# Altium footprint library ASM2464PD.PcbLib: 48 footprints (part 1 of 3)
Each footprint in its own frame and in the unit in brackets; x right, y up, seen from the top. Pads: shape width x height; smd on the part's side, far side on the other; paste and mask are expansions set on the pad; w line width, h text height; cw(c..) or ccw(c..) is an arc to the next point about the centre after c.
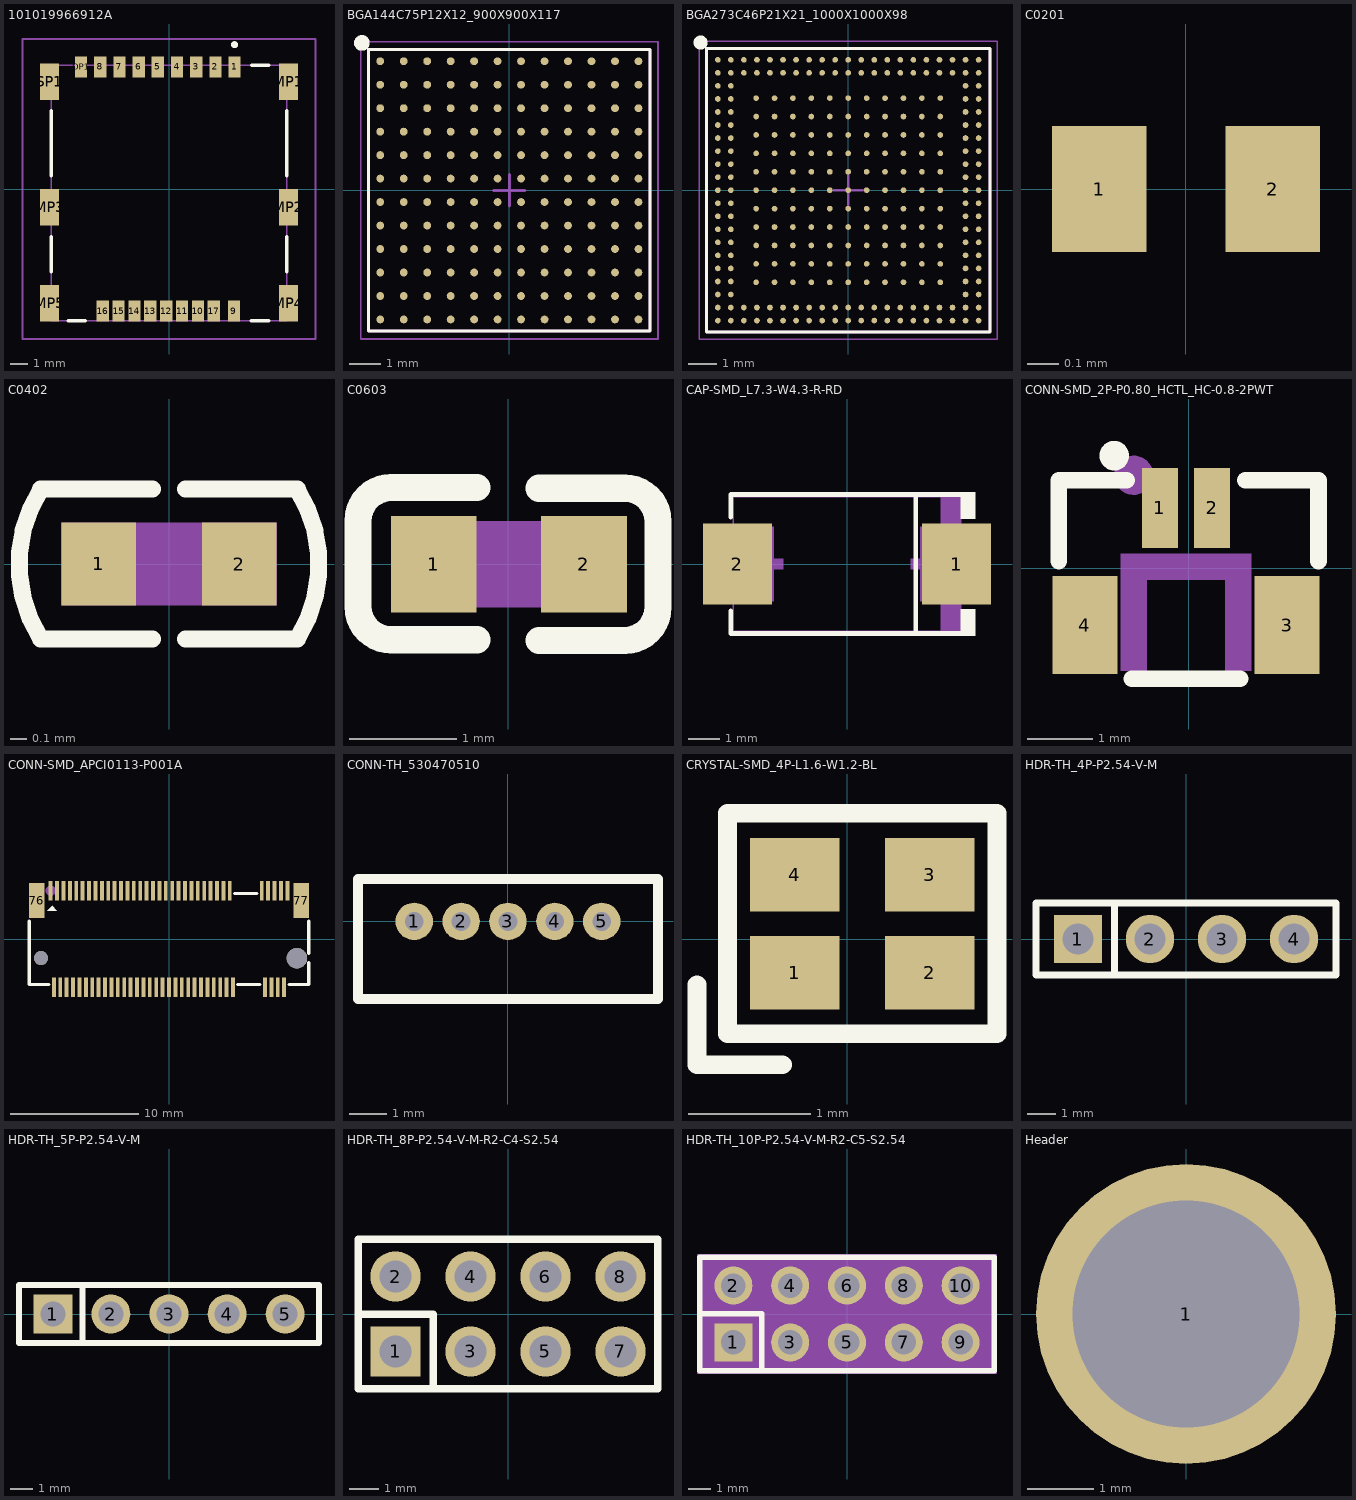
[diagram p0: the footprints below, top view; thin cyan lines are the x and y axes]

## 101019966912A [mm]
pads (24):
  rect 0.7x1.2 smd: 1(3.76,7) 2(2.66,7) 3(1.56,7) 4(0.46,7) 5(-0.64,7) 6(-1.74,7) 7(-2.84,7) 8(-3.94,7) 9(3.72,-7) 10(1.66,-7) 11(0.75,-7) 12(-0.16,-7) 13(-1.07,-7) 14(-1.98,-7) 15(-2.89,-7) 16(-3.8,-7) 17(2.57,-7) DP1(-5.04,7)
  rect 1.1x2.1 smd: MP1(6.85,6.15) MP2(6.85,-1.05) MP3(-6.85,-1.05) MP4(6.85,-6.55) MP5(-6.85,-6.55) SP1(-6.85,6.15)
Top Overlay:
  lines w0.2: 3.76,8.175 ccw(c3.76,8.275) 3.76,8.375 ; 3.76,8.175 cw(c3.76,8.275) 3.76,8.375 ; 3.76,8.175 ccw(c3.76,8.275) 3.76,8.375 ; -6.75,-4.75 -6.75,-2.75 -6.75,-4.75 ; -6.75,0.75 -6.75,4.5 -6.75,0.75 ; -5.79,-7.55 -4.79,-7.55 -5.79,-7.55 ; 4.71,-7.55 5.71,-7.55 4.71,-7.55 ; 4.75,7.1 5.71,7.1 4.75,7.1 ; 6.75,-4.75 6.75,-2.75 6.75,-4.75 ; 6.75,0.75 6.75,4.5 6.75,0.75
Mechanical 13:
  lines w0.1: -6.75,-7.55 6.75,-7.55 6.75,7.1 -6.75,7.1 -6.75,-7.55
Mechanical 15:
  lines w0.1: -8.4,-8.6 8.4,-8.6 8.4,8.6 -8.4,8.6 -8.4,-8.6
3D body "c10101996.stp": height 1.5, standoff -0.05, extent -7.239,-7.552 7.261,7.298

## BGA144C75P12X12_900X900X117 [mm] "BGA, 144-Leads, Body 9.00x9.00mmx1.17mm, Pitch 0.75mm"
height 1.17
pads (144):
  round 0.25 smd: A1(-4.125,4.125) A2(-3.375,4.125) A3(-2.625,4.125) A4(-1.875,4.125) A5(-1.125,4.125) A6(-0.375,4.125) A7(0.375,4.125) A8(1.125,4.125) A9(1.875,4.125) A10(2.625,4.125) A11(3.375,4.125) A12(4.125,4.125) B1(-4.125,3.375) B2(-3.375,3.375) B3(-2.625,3.375) B4(-1.875,3.375) B5(-1.125,3.375) B6(-0.375,3.375) B7(0.375,3.375) B8(1.125,3.375) B9(1.875,3.375) B10(2.625,3.375) B11(3.375,3.375) B12(4.125,3.375) C1(-4.125,2.625) C2(-3.375,2.625) C3(-2.625,2.625) C4(-1.875,2.625) C5(-1.125,2.625) C6(-0.375,2.625) C7(0.375,2.625) C8(1.125,2.625) C9(1.875,2.625) C10(2.625,2.625) C11(3.375,2.625) C12(4.125,2.625) D1(-4.125,1.875) D2(-3.375,1.875) D3(-2.625,1.875) D4(-1.875,1.875) D5(-1.125,1.875) D6(-0.375,1.875) D7(0.375,1.875) D8(1.125,1.875) D9(1.875,1.875) D10(2.625,1.875) D11(3.375,1.875) D12(4.125,1.875) E1(-4.125,1.125) E2(-3.375,1.125) E3(-2.625,1.125) E4(-1.875,1.125) E5(-1.125,1.125) E6(-0.375,1.125) E7(0.375,1.125) E8(1.125,1.125) E9(1.875,1.125) E10(2.625,1.125) E11(3.375,1.125) E12(4.125,1.125) F1(-4.125,0.375) F2(-3.375,0.375) F3(-2.625,0.375) F4(-1.875,0.375) F5(-1.125,0.375) F6(-0.375,0.375) F7(0.375,0.375) F8(1.125,0.375) F9(1.875,0.375) F10(2.625,0.375) F11(3.375,0.375) F12(4.125,0.375) G1(-4.125,-0.375) G2(-3.375,-0.375) G3(-2.625,-0.375) G4(-1.875,-0.375) G5(-1.125,-0.375) G6(-0.375,-0.375) G7(0.375,-0.375) G8(1.125,-0.375) G9(1.875,-0.375) G10(2.625,-0.375) G11(3.375,-0.375) G12(4.125,-0.375) H1(-4.125,-1.125) H2(-3.375,-1.125) H3(-2.625,-1.125) H4(-1.875,-1.125) H5(-1.125,-1.125) H6(-0.375,-1.125) H7(0.375,-1.125) H8(1.125,-1.125) H9(1.875,-1.125) H10(2.625,-1.125) H11(3.375,-1.125) H12(4.125,-1.125) J1(-4.125,-1.875) J2(-3.375,-1.875) J3(-2.625,-1.875) J4(-1.875,-1.875) J5(-1.125,-1.875) J6(-0.375,-1.875) J7(0.375,-1.875) J8(1.125,-1.875) J9(1.875,-1.875) J10(2.625,-1.875) J11(3.375,-1.875) J12(4.125,-1.875) K1(-4.125,-2.625) K2(-3.375,-2.625) K3(-2.625,-2.625) K4(-1.875,-2.625) K5(-1.125,-2.625) K6(-0.375,-2.625) K7(0.375,-2.625) K8(1.125,-2.625) K9(1.875,-2.625) K10(2.625,-2.625) K11(3.375,-2.625) K12(4.125,-2.625) L1(-4.125,-3.375) L2(-3.375,-3.375) L3(-2.625,-3.375) L4(-1.875,-3.375) L5(-1.125,-3.375) L6(-0.375,-3.375) L7(0.375,-3.375) L8(1.125,-3.375) L9(1.875,-3.375) L10(2.625,-3.375) L11(3.375,-3.375) L12(4.125,-3.375) M1(-4.125,-4.125) M2(-3.375,-4.125) M3(-2.625,-4.125) M4(-1.875,-4.125) M5(-1.125,-4.125) M6(-0.375,-4.125) M7(0.375,-4.125) M8(1.125,-4.125) M9(1.875,-4.125) M10(2.625,-4.125) M11(3.375,-4.125) M12(4.125,-4.125)
Top Overlay:
  circle w0.25: c-4.71,4.71 r0.125
  lines w0.1: -4.5,-4.5 4.5,-4.5 4.5,4.5 -4.5,4.5 -4.5,-4.5
Mechanical 13:
  lines w0.1: -4.5,-4.5 -4.5,4.5 4.5,4.5 4.5,-4.5 -4.5,-4.5
Mechanical 15:
  lines w0.05: -4.75,-4.75 -4.75,4.75 4.75,4.75 4.75,-4.75 -4.75,-4.75
  lines w0.1: -0.5,0 0.5,0 ; 0,-0.5 0,0.5
3D body "BGA144C75P12X12_900X900X117.step": height 1.17, standoff 0, extent -4.5,-4.5 4.5,4.5

## BGA273C46P21X21_1000X1000X98 [mm] "BGA, 273-Leads, Body 10.00x10.00mmx0.98mm, Pitch 0.46mm"
height 0.99
pads (273):
  round 0.2 smd: A1(-4.6,4.6) A2(-4.14,4.6) A3(-3.68,4.6) A4(-3.22,4.6) A5(-2.76,4.6) A6(-2.3,4.6) A7(-1.84,4.6) A8(-1.38,4.6) A9(-0.92,4.6) A10(-0.46,4.6) A11(0,4.6) A12(0.46,4.6) A13(0.92,4.6) A14(1.38,4.6) A15(1.84,4.6) A16(2.3,4.6) A17(2.76,4.6) A18(3.22,4.6) A19(3.68,4.6) A20(4.14,4.6) A21(4.6,4.6) AA1(-4.6,-4.6) AA2(-4.14,-4.6) AA3(-3.68,-4.6) AA4(-3.22,-4.6) AA5(-2.76,-4.6) AA6(-2.3,-4.6) AA7(-1.84,-4.6) AA8(-1.38,-4.6) AA9(-0.92,-4.6) AA10(-0.46,-4.6) AA11(0,-4.6) AA12(0.46,-4.6) AA13(0.92,-4.6) AA14(1.38,-4.6) AA15(1.84,-4.6) AA16(2.3,-4.6) AA17(2.76,-4.6) AA18(3.22,-4.6) AA19(3.68,-4.6) AA20(4.14,-4.6) AA21(4.6,-4.6) B1(-4.6,4.14) B2(-4.14,4.14) B3(-3.68,4.14) B4(-3.22,4.14) B5(-2.76,4.14) B6(-2.3,4.14) B7(-1.84,4.14) B8(-1.38,4.14) B9(-0.92,4.14) B10(-0.46,4.14) B11(0,4.14) B12(0.46,4.14) B13(0.92,4.14) B14(1.38,4.14) B15(1.84,4.14) B16(2.3,4.14) B17(2.76,4.14) B18(3.22,4.14) B19(3.68,4.14) B20(4.14,4.14) B21(4.6,4.14) C1(-4.6,3.68) C2(-4.14,3.68) C20(4.14,3.68) C21(4.6,3.68) D1(-4.6,3.22) D2(-4.14,3.22) D4(-3.25,3.25) D5(-2.6,3.25) D6(-1.95,3.25) D8(-1.3,3.25) D9(-0.65,3.25) D11(0,3.25) D13(0.65,3.25) D14(1.3,3.25) D16(1.95,3.25) D17(2.6,3.25) D18(3.25,3.25) D20(4.14,3.22) D21(4.6,3.22) E1(-4.6,2.76) E2(-4.14,2.76) E4(-3.25,2.6) E5(-2.6,2.6) E6(-1.95,2.6) E8(-1.3,2.6) E9(-0.65,2.6) E11(0,2.6) E13(0.65,2.6) E14(1.3,2.6) E16(1.95,2.6) E17(2.6,2.6) E18(3.25,2.6) E20(4.14,2.76) E21(4.6,2.76) F1(-4.6,2.3) F2(-4.14,2.3) F4(-3.25,1.95) F5(-2.6,1.95) F6(-1.95,1.95) F8(-1.3,1.95) F9(-0.65,1.95) F11(0,1.95) F13(0.65,1.95) F14(1.3,1.95) F16(1.95,1.95) F17(2.6,1.95) F18(3.25,1.95) F20(4.14,2.3) F21(4.6,2.3) G1(-4.6,1.84) G2(-4.14,1.84) G20(4.14,1.84) G21(4.6,1.84) H1(-4.6,1.38) H2(-4.14,1.38) H4(-3.25,1.3) H5(-2.6,1.3) H6(-1.95,1.3) H8(-1.3,1.3) H9(-0.65,1.3) H11(0,1.3) H13(0.65,1.3) H14(1.3,1.3) H16(1.95,1.3) H17(2.6,1.3) H18(3.25,1.3) H20(4.14,1.38) H21(4.6,1.38) J1(-4.6,0.92) J2(-4.14,0.92) J4(-3.25,0.65) J5(-2.6,0.65) J6(-1.95,0.65) J8(-1.3,0.65) J9(-0.65,0.65) J11(0,0.65) J13(0.65,0.65) J14(1.3,0.65) J16(1.95,0.65) J17(2.6,0.65) J18(3.25,0.65) J20(4.14,0.92) J21(4.6,0.92) K1(-4.6,0.46) K2(-4.14,0.46) K20(4.14,0.46) K21(4.6,0.46) L1(-4.6,0) L2(-4.14,0) L4(-3.25,0) L5(-2.6,0) L6(-1.95,0) L8(-1.3,0) L9(-0.65,0) L11(0,0) L13(0.65,0) L14(1.3,0) L16(1.95,0) L17(2.6,0) L18(3.25,0) L20(4.14,0) L21(4.6,0) M1(-4.6,-0.46) M2(-4.14,-0.46) M20(4.14,-0.46) M21(4.6,-0.46) N1(-4.6,-0.92) N2(-4.14,-0.92) N4(-3.25,-0.65) N5(-2.6,-0.65) N6(-1.95,-0.65) N8(-1.3,-0.65) N9(-0.65,-0.65) N11(0,-0.65) N13(0.65,-0.65) N14(1.3,-0.65) N16(1.95,-0.65) N17(2.6,-0.65) N18(3.25,-0.65) N20(4.14,-0.92) N21(4.6,-0.92) P1(-4.6,-1.38) P2(-4.14,-1.38) P4(-3.25,-1.3) P5(-2.6,-1.3) P6(-1.95,-1.3) P8(-1.3,-1.3) P9(-0.65,-1.3) P11(0,-1.3) P13(0.65,-1.3) P14(1.3,-1.3) P16(1.95,-1.3) P17(2.6,-1.3) P18(3.25,-1.3) P20(4.14,-1.38) P21(4.6,-1.38) R1(-4.6,-1.84) R2(-4.14,-1.84) R20(4.14,-1.84) R21(4.6,-1.84) T1(-4.6,-2.3) T2(-4.14,-2.3) T4(-3.25,-1.95) T5(-2.6,-1.95) T6(-1.95,-1.95) T8(-1.3,-1.95) T9(-0.65,-1.95) T11(0,-1.95) T13(0.65,-1.95) T14(1.3,-1.95) T16(1.95,-1.95) T17(2.6,-1.95) T18(3.25,-1.95) T20(4.14,-2.3) T21(4.6,-2.3) U1(-4.6,-2.76) U2(-4.14,-2.76) U4(-3.25,-2.6) U5(-2.6,-2.6) U6(-1.95,-2.6) U8(-1.3,-2.6) U9(-0.65,-2.6) U11(0,-2.6) U13(0.65,-2.6) U14(1.3,-2.6) U16(1.95,-2.6) U17(2.6,-2.6) U18(3.25,-2.6) U20(4.14,-2.76) U21(4.6,-2.76) V1(-4.6,-3.22) V2(-4.14,-3.22) V4(-3.25,-3.25) V5(-2.6,-3.25) V6(-1.95,-3.25) V8(-1.3,-3.25) V9(-0.65,-3.25) V11(0,-3.25) V13(0.65,-3.25) V14(1.3,-3.25) V16(1.95,-3.25) V17(2.6,-3.25) V18(3.25,-3.25) V20(4.14,-3.22) V21(4.6,-3.22) W1(-4.6,-3.68) W2(-4.14,-3.68) W20(4.14,-3.68) W21(4.6,-3.68) Y1(-4.6,-4.14) Y2(-4.14,-4.14) Y3(-3.68,-4.14) Y4(-3.22,-4.14) Y5(-2.76,-4.14) Y6(-2.3,-4.14) Y7(-1.84,-4.14) Y8(-1.38,-4.14) Y9(-0.92,-4.14) Y10(-0.46,-4.14) Y11(0,-4.14) Y12(0.46,-4.14) Y13(0.92,-4.14) Y14(1.38,-4.14) Y15(1.84,-4.14) Y16(2.3,-4.14) Y17(2.76,-4.14) Y18(3.22,-4.14) Y19(3.68,-4.14) Y20(4.14,-4.14) Y21(4.6,-4.14)
Top Overlay:
  circle w0.25: c-5.21,5.21 r0.125
  lines w0.1: -5,-5 5,-5 5,5 -5,5 -5,-5
Mechanical 13:
  lines w0.1: -5,-5 5,-5 5,5 -5,5 -5,-5
Mechanical 15:
  lines w0.05: -5.25,-5.25 5.25,-5.25 5.25,5.25 -5.25,5.25 -5.25,-5.25
  lines w0.1: -0.5,0 0.5,0 ; 0,-0.5 0,0.5
3D body "BGA273C46P21X21_1000X1000X98.step": height 0.98, standoff 0, extent -5,-5 5,5

## C0201 [mm]
pads (2):
  rect 0.3x0.4 smd: 1(-0.275,0) 2(0.275,0)
3D body "CAPC0603X03N.step": height 0.3, standoff 0, extent -0.3,-0.15 0.3,0.15

## C0402 [mm]
pads (2):
  rect 0.45x0.5 smd mask+0.076: 1(-0.425,0) 2(0.425,0)
Top Overlay:
  lines w0.102: -0.777,-0.453 -0.1,-0.453 ; -0.777,0.453 -0.1,0.453 ; -0.776,-0.45 cw(c-0.064,0) -0.775,0.452 ; 0.1,-0.453 0.777,-0.453 ; 0.1,0.453 0.777,0.453 ; 0.775,0.452 cw(c0.064,0) 0.776,-0.45
Mechanical 7:
  pour cut-out: -0.65,0.25 0.65,0.25 0.65,-0.25 -0.65,-0.25
3D body: height 0.5, standoff 0, extent -0.5,-0.25 -0.3,0.25
3D body: height 0.5, standoff 0, extent -0.3,-0.25 0.3,0.25
3D body: height 0.5, standoff 0, extent 0.3,-0.25 0.5,0.25

## C0603 [mm]
pads (2):
  rect 0.8x0.9 smd: 1(-0.692,-0.003) 2(0.708,-0.003)
Top Overlay:
  lines w0.254: -0.288,-0.707 -1.088,-0.707 cw(c-1.088,-0.397) -1.398,-0.397 -1.398,0.403 cw(c-1.088,0.403) -1.088,0.713 -0.288,0.713 ; 0.288,-0.713 1.088,-0.713 ccw(c1.088,-0.403) 1.398,-0.403 1.398,0.397 ccw(c1.088,0.397) 1.088,0.707 0.288,0.707
Mechanical 4:
  region: -0.792,-0.403 -0.792,0.397 0.808,0.397 0.808,-0.403
Mechanical 5:
  region: 0.808,-0.403 0.808,0.397 0.508,0.397 0.508,-0.403
  region: -0.792,-0.403 -0.792,0.397 -0.492,0.397 -0.492,-0.403

## CAP-SMD_L7.3-W4.3-R-RD [mm]
pads (2):
  rect 2.207x2.592 smd: 1(3.511,0) 2(-3.511,0)
Top Overlay:
  region: 3.65,-2.302 3.65,-1.448 4.107,-1.448 4.107,-2.302
  region: 3.65,2.302 3.65,1.448 4.107,1.448 4.107,2.302
  lines w0.152: -3.726,-1.499 -3.726,-2.226 3.726,-2.226 ; -3.726,1.499 -3.726,2.226 3.726,2.226 ; 2.204,-2.226 2.204,2.226
Mechanical 6:
  region: 3.65,2.15 3.65,1.075 3.005,1.075 3.005,2.15
  region: 3.65,-2.15 3.65,-1.075 3.005,-1.075 3.005,-2.15
  region: 2.844,-1.075 2.844,1.075 2.521,1.075 2.521,-1.075
  region: 3.328,-0.161 3.328,0.161 2.038,0.161 2.038,-0.161
  region: -3.328,-0.161 -3.328,0.161 -2.038,0.161 -2.038,-0.161
Mechanical 15:
  region: 3.65,-1.2 3.65,1.2 2.35,1.2 2.35,-1.2
  region: -3.65,-1.2 -3.65,1.2 -2.35,1.2 -2.35,-1.2
  region: 3.71,-2.12 3.71,-2.095 3.675,-2.06 3.625,-2.06 3.59,-2.095 3.59,-2.12 3.59,-2.145 3.625,-2.18 3.675,-2.18 3.71,-2.145 3.71,-2.12
  lines w0.051: -3.65,-2.15 3.65,-2.15 3.65,2.15 -3.65,2.15 -3.65,-2.15

## CONN-SMD_2P-P0.80_HCTL_HC-0.8-2PWT [mm]
pads (4):
  rect 0.55x1.23 smd: 1(-0.441,0.922) 2(0.359,0.922)
  rect 1x1.5 smd: 3(1.509,-0.874) 4(-1.591,-0.874)
Top Overlay:
  circle w0.254: c-1.141,1.724 r0.1
  lines w0.254: -1.991,0.108 -1.991,1.351 -0.947,1.351 ; -0.872,-1.697 0.79,-1.697 ; 0.865,1.351 1.991,1.351 1.991,0.108
Mechanical 15:
  circle w0.3: c-0.841,1.424 r0.15
  region: -1.041,-1.576 -1.041,0.224 -0.641,0.224 -0.641,-1.576
  region: 0.959,-1.576 0.959,0.224 0.559,0.224 0.559,-1.576
  region: -0.641,0.224 0.559,0.224 0.559,-0.176 -0.641,-0.176

## CONN-SMD_APCI0113-P001A [mm]
pads (71):
  rect 0.3x1.55 smd: 1(-9.25,3.775) 2(-9,-3.775) 3(-8.75,3.775) 4(-8.5,-3.775) 5(-8.25,3.775) 6(-8,-3.775) 7(-7.75,3.775) 8(-7.5,-3.775) 9(-7.25,3.775) 10(-7,-3.775) 11(-6.75,3.775) 12(-6.5,-3.775) 13(-6.25,3.775) 14(-6,-3.775) 15(-5.75,3.775) 16(-5.5,-3.775) 17(-5.25,3.775) 18(-5,-3.775) 19(-4.75,3.775) 20(-4.5,-3.775) 21(-4.25,3.775) 22(-4,-3.775) 23(-3.75,3.775) 24(-3.5,-3.775) 25(-3.25,3.775) 26(-3,-3.775) 27(-2.75,3.775) 28(-2.5,-3.775) 29(-2.25,3.775) 30(-2,-3.775) 31(-1.75,3.775) 32(-1.5,-3.775) 33(-1.25,3.775) 34(-1,-3.775) 35(-0.75,3.775) 36(-0.5,-3.775) 37(-0.25,3.775) 38(0,-3.775) 39(0.25,3.775) 40(0.5,-3.775) 41(0.75,3.775) 42(1,-3.775) 43(1.25,3.775) 44(1.5,-3.775) 45(1.75,3.775) 46(2,-3.775) 47(2.25,3.775) 48(2.5,-3.775) 49(2.75,3.775) 50(3,-3.775) 51(3.25,3.775) 52(3.5,-3.775) 53(3.75,3.775) 54(4,-3.775) 55(4.25,3.775) 56(4.5,-3.775) 57(4.75,3.775) 58(5,-3.775) 67(7.25,3.775) 68(7.5,-3.775) 69(7.75,3.775) 70(8,-3.775) 71(8.25,3.775) 72(8.5,-3.775) 73(8.75,3.775) 74(9,-3.775) 75(9.25,3.775)
  rect 1.2x2.75 smd: 76(-10.35,3) 77(10.35,3)
  round 1.1 hole 1.1 unplated: ""(-10,-1.5)
  round 1.6 hole 1.6 unplated: ""(10,-1.5)
Top Overlay:
  region: -9.144,2.603 -9.525,2.222 -8.763,2.222
  lines w0.254: -10.922,1.394 -10.922,-3.556 -9.381,-3.556 ; 5.131,3.556 6.869,3.556 ; 5.381,-3.556 7.119,-3.556 ; 9.381,-3.556 10.922,-3.556 10.922,-1.864 ; 10.922,-1.136 10.922,1.394
Mechanical 15:
  circle w0.4: c-9.25,3.775 r0.2
3D body "MDT320M0X001_c3d.stp": height 3.2, standoff -0.6, extent -11,-4.346 11,4.204

## CONN-TH_530470510 [mm]
pads (5):
  round 1 hole 0.5: 1(-2.5,0) 2(-1.25,0) 3(0,0) 4(1.25,0) 5(2.5,0)
Top Overlay:
  lines w0.254: -4,-2.07 -4,1.13 4,1.13 4,-2.07 -4,-2.07
3D body "530470510.stp": height 3.97, standoff -2.53, extent -4,-2.07 4,1.13

## CRYSTAL-SMD_4P-L1.6-W1.2-BL [mm]
pads (4):
  rect 0.73x0.6 smd: 1(-0.425,-0.275) 2(0.675,-0.275) 3(0.675,0.525) 4(-0.425,0.525)
Top Overlay:
  lines w0.152: -1.225,-0.375 -1.225,-1.025 -0.526,-1.025 ; -0.975,-0.775 1.225,-0.775 1.225,1.025 -0.975,1.025 -0.975,-0.725 -0.975,-0.775
Mechanical 15:
  circle w0.2: c-0.475,-0.325 r0.1
3D body "ABM12W-25.0000MHZ-8-D1X-T3--3DModel-STEP-400430.STEP": height 0.4, standoff 0, extent -0.675,-0.475 0.925,0.725

## HDR-TH_4P-P2.54-V-M [mm]
pads (4):
  rect 1.7x1.7 hole 1.1: 1(-3.81,0)
  round 1.7 hole 1.1: 2(-1.27,0) 3(1.27,0) 4(3.81,0)
Top Overlay:
  lines w0.254: -2.516,-1.27 -2.516,1.27 ; -5.29,-1.27 -5.29,1.27 5.29,1.27 5.29,-1.27 -5.29,-1.27

## HDR-TH_5P-P2.54-V-M [mm]
pads (5):
  rect 1.7x1.7 hole 1.1: 1(-5.08,0)
  round 1.7 hole 1.1: 2(-2.54,0) 3(0,0) 4(2.54,0) 5(5.08,0)
Top Overlay:
  lines w0.254: -3.786,-1.27 -3.786,1.27 ; -6.56,-1.27 6.56,-1.27 6.56,1.27 -6.56,1.27 -6.56,-1.27

## HDR-TH_8P-P2.54-V-M-R2-C4-S2.54 [mm]
pads (8):
  rect 1.7x1.7 hole 1.1: 1(-3.81,-1.27)
  round 1.7 hole 1.1: 2(-3.81,1.27) 3(-1.27,-1.27) 4(-1.27,1.27) 5(1.27,-1.27) 6(1.27,1.27) 7(3.81,-1.27) 8(3.81,1.27)
Top Overlay:
  lines w0.254: -5.08,0 -2.54,0 -2.54,-2.54 ; 5.07,2.54 -5.08,2.54 -5.08,-2.54 5.08,-2.54 5.08,2.54

## HDR-TH_10P-P2.54-V-M-R2-C5-S2.54 [mm]
pads (10):
  rect 1.7x1.7 hole 1.1: 1(-5.08,-1.27)
  round 1.7 hole 1.1: 2(-5.08,1.27) 3(-2.54,-1.27) 4(-2.54,1.27) 5(0,-1.27) 6(0,1.27) 7(2.54,-1.27) 8(2.54,1.27) 9(5.08,-1.27) 10(5.08,1.27)
Top Overlay:
  lines w0.254: -6.58,0.007 -3.81,0.007 -3.81,-2.54 ; -6.58,-2.54 6.58,-2.54 6.58,2.54 -6.58,2.54 -6.58,-2.54
Mechanical 4:
  region: -6.707,2.667 6.707,2.667 6.707,-2.667 -6.707,-2.667
Mechanical 5:
  circle w0.45: c-5.08,-1.27 r0.225
  circle w0.45: c-5.08,1.27 r0.225
  circle w0.45: c-2.54,-1.27 r0.225
  circle w0.45: c-2.54,1.27 r0.225
  circle w0.45: c0,-1.27 r0.225
  circle w0.45: c0,1.27 r0.225
  circle w0.45: c2.54,-1.27 r0.225
  circle w0.45: c2.54,1.27 r0.225
  circle w0.45: c5.08,-1.27 r0.225
  circle w0.45: c5.08,1.27 r0.225

## Header [mm]
pads (1):
  round 4.5 hole 3.4 paste-2539.97 mask+0.102: 1(0,0)